# Altium schematic symbol library MTFC32GAZAQHD-IT.SchLib: 1 symbol
Pins are listed as number, name and electrical type; pins without a type are passive.

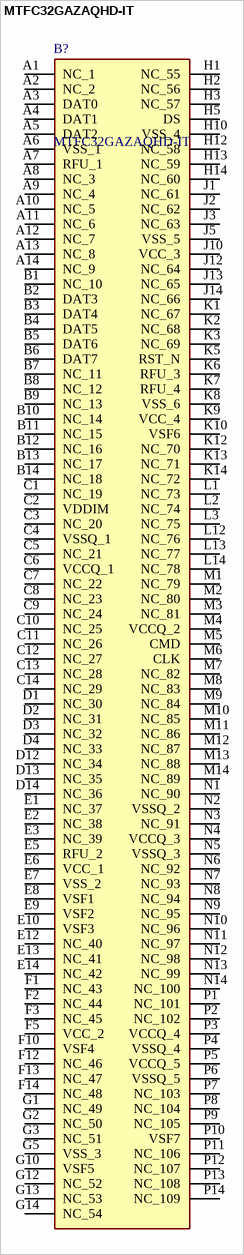
[diagram p0: symbol MTFC32GAZAQHD-IT]

## MTFC32GAZAQHD-IT
designator B?
eMMC eMMC 256G; Manufacturer_Name: Micron; Geometry.Height: 0.9mm; Manufacturer_Part_Number: MTFC32GAZAQHD-IT; Mouser Part Number: 340-505444-TRAY; Mouser Price/Stock: https://www.mouser.co.uk/ProductDetail/Micron/MTFC32GAZAQHD-IT?qs=KUoIvG%2F9IlZ%252Bsv3yufc3Aw%3D%3D; Arrow Part Number: MTFC32GAZAQHD-IT; Arrow Price/Stock: https://www.arrow.com/en/products/mtfc32gazaqhd-it/micron-technology?utm_currency=USD&region=nac; Datasheet Link: https://www.farnell.com/datasheets/3542647.pdf
footprint BGA153C50P14X14_1150X1300X90
pins: A1 NC_1, A2 NC_2, A3 DAT0, A4 DAT1, A5 DAT2, A6 VSS_1, A7 RFU_1, A8 NC_3, A9 NC_4, A10 NC_5, A11 NC_6, A12 NC_7, A13 NC_8, A14 NC_9, B1 NC_10, B2 DAT3, B3 DAT4, B4 DAT5, B5 DAT6, B6 DAT7, B7 NC_11, B8 NC_12, B9 NC_13, B10 NC_14, B11 NC_15, B12 NC_16, B13 NC_17, B14 NC_18, C1 NC_19, C2 VDDIM, C3 NC_20, C4 VSSQ_1, C5 NC_21, C6 VCCQ_1, C7 NC_22, C8 NC_23, C9 NC_24, C10 NC_25, C11 NC_26, C12 NC_27, C13 NC_28, C14 NC_29, D1 NC_30, D2 NC_31, D3 NC_32, D4 NC_33, D12 NC_34, D13 NC_35, D14 NC_36, E1 NC_37, E2 NC_38, E3 NC_39, E5 RFU_2, E6 VCC_1, E7 VSS_2, E8 VSF1, E9 VSF2, E10 VSF3, E12 NC_40, E13 NC_41, E14 NC_42, F1 NC_43, F2 NC_44, F3 NC_45, F5 VCC_2, F10 VSF4, F12 NC_46, F13 NC_47, F14 NC_48, G1 NC_49, G2 NC_50, G3 NC_51, G5 VSS_3, G10 VSF5, G12 NC_52, G13 NC_53, G14 NC_54, H1 NC_55, H2 NC_56, H3 NC_57, H5 DS, H10 VSS_4, H12 NC_58, H13 NC_59, H14 NC_60, J1 NC_61, J2 NC_62, J3 NC_63, J5 VSS_5, J10 VCC_3, J12 NC_64, J13 NC_65, J14 NC_66, K1 NC_67, K2 NC_68, K3 NC_69, K5 RST_N, K6 RFU_3, K7 RFU_4, K8 VSS_6, K9 VCC_4, K10 VSF6, K12 NC_70, K13 NC_71, K14 NC_72, L1 NC_73, L2 NC_74, L3 NC_75, L12 NC_76, L13 NC_77, L14 NC_78, M1 NC_79, M2 NC_80, M3 NC_81, M4 VCCQ_2, M5 CMD, M6 CLK, M7 NC_82, M8 NC_83, M9 NC_84, M10 NC_85, M11 NC_86, M12 NC_87, M13 NC_88, M14 NC_89, N1 NC_90, N2 VSSQ_2, N3 NC_91, N4 VCCQ_3, N5 VSSQ_3, N6 NC_92, N7 NC_93, N8 NC_94, N9 NC_95, N10 NC_96, N11 NC_97, N12 NC_98, N13 NC_99, N14 NC_100, P1 NC_101, P2 NC_102, P3 VCCQ_4, P4 VSSQ_4, P5 VCCQ_5, P6 VSSQ_5, P7 NC_103, P8 NC_104, P9 NC_105, P10 VSF7, P11 NC_106, P12 NC_107, P13 NC_108, P14 NC_109